# Altium footprint library Transistor.PcbLib: 2 footprints
Each footprint in its own frame and in the unit in brackets; x right, y up, seen from the top. Pads: shape width x height; smd on the part's side, far side on the other; paste and mask are expansions set on the pad; w line width, h text height; cw(c..) or ccw(c..) is an arc to the next point about the centre after c.
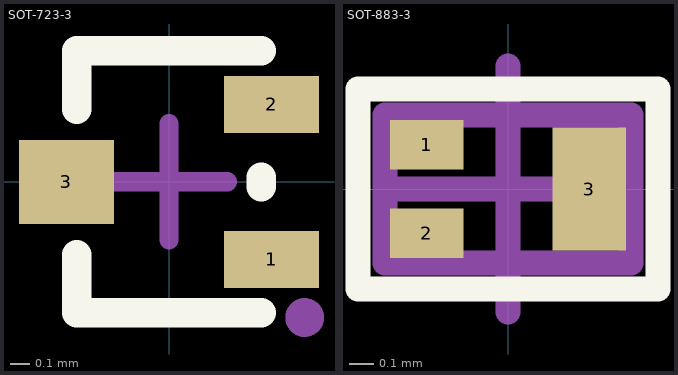
[diagram p0: the footprints below, top view; thin cyan lines are the x and y axes]

## SOT-723-3 [mm]
pads (3):
  rect 0.489x0.294 smd paste+0 mask+0.051: 1(0.529,-0.4) 2(0.529,0.4)
  rect 0.489x0.434 smd paste+0 mask+0.051: 3(-0.529,0)
Top Overlay:
  lines w0.152: -0.476,-0.376 -0.476,-0.676 0.476,-0.676 ; -0.476,0.376 -0.476,0.676 0.476,0.676 ; 0.476,-0.024 0.476,0.024
Mechanical 15:
  circle w0.1: c0.7,-0.7 r0.05
Top Component Center:
  lines w0.1: -0.3,0 0.3,0 ; 0,-0.3 0,0.3
3D body: height 0.5, standoff 0, extent -0.4,-0.6 0.4,0.6

## SOT-883-3 [mm]
pads (3):
  rect 0.3x0.2 smd: 1(-0.33,0.18) 2(-0.33,-0.18)
  rect 0.3x0.5 smd: 3(0.33,0)
Top Overlay:
  lines w0.102: -0.61,-0.406 0.61,-0.406 0.61,0.406 -0.61,0.406 -0.61,-0.406
Top Component Outline:
  lines w0.102: -0.5,-0.3 0.5,-0.3 0.5,0.3 -0.5,0.3 -0.5,-0.3
Top Component Center:
  lines w0.1: -0.5,0 0.5,0 ; 0,-0.5 0,0.5
3D body: height 0.4, standoff 0, extent -0.5,-0.3 0.5,0.3